# EAGLE library part L86-M33 (library L86-M33)
Compact GPS/GLONASS Module with Patch Antenna
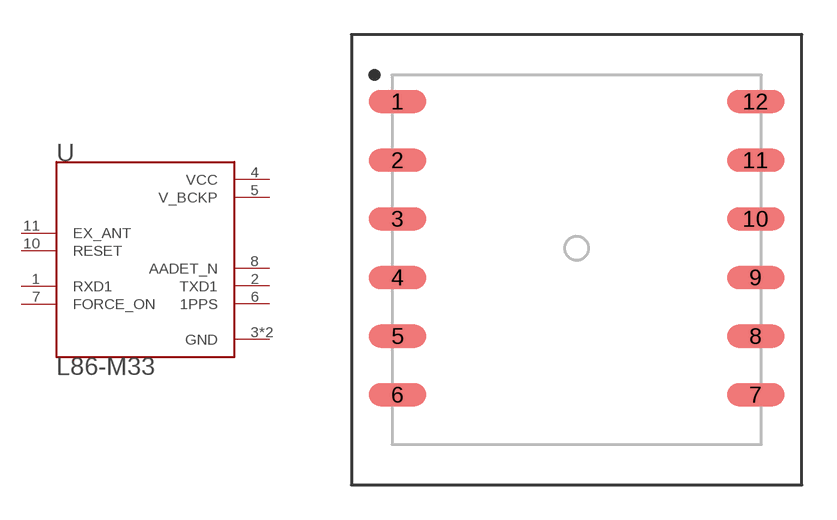
[diagram p0: symbol with the pads of SON254P1840X1840X40-12N; footprint SON254P1840X1840X40-12N]

Designator prefix U

## L86-M33 (Availability: Bad; Description: Compact GPS/GLONASS Module with Patch Antenna; MF: Quectel; MP: L86-M33; Package: LCC-12 Quectel; Price: 8.79 USD)  [SON254P1840X1840X40-12N]
1  RXD1  in
2  TXD1  out
3  GND  pas
4  VCC  pwr
5  V_BCKP  pwr
6  1PPS  out
7  FORCE_ON  in
8  AADET_N  out
10  RESET  in
11  EX_ANT  in
12  GND  pas

## Footprint SON254P1840X1840X40-12N (pad centres in mm)
smd 2.5 x 1: 1 -7.75,6.35; 2 -7.75,3.81; 3 -7.75,1.27; 4 -7.75,-1.27; 5 -7.75,-3.81; 6 -7.75,-6.35; 7 7.75,-6.35; 8 7.75,-3.81; 9 7.75,-1.27; 10 7.75,1.27; 11 7.75,3.81; 12 7.75,6.35